# Altium schematic symbol library ADUM4120.Schlib: 1 symbol
Pins are listed as number, name and electrical type; pins without a type are passive.

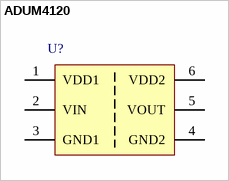
[diagram p0: symbol ADUM4120]

## ADUM4120
designator U?  (value not drawn)
Isolated Precision Gate Driver
pins: 1 VDD1, 2 VIN, 3 GND1, 4 GND2, 5 VOUT, 6 VDD2